# EAGLE library part MAX9918 (library LARS_409_MC)
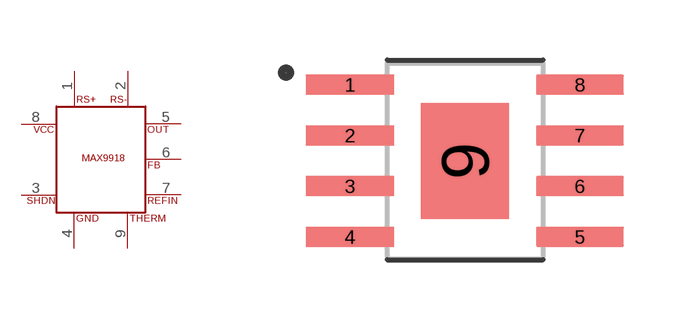
[diagram p13: symbol with the pads of HSOIC8; footprint HSOIC8]

Designator prefix U

## MAX9918  [HSOIC8]
1  RS+
2  RS-
3  SHDN
4  GND
5  OUT
6  FB
7  REFIN
8  VCC
9  THERM

## Footprint HSOIC8 (pad centres in mm)
smd 2.2 x 0.5: 1 -2.875,1.905; 2 -2.875,0.635; 3 -2.875,-0.635; 4 -2.875,-1.905; 5 2.875,-1.905; 6 2.875,-0.635; 7 2.875,0.635; 8 2.875,1.905
smd 2.2 x 2.9: 9 0,0